# Altium footprint library gost_lib_footpr.PcbLib: 34 footprints (part 3 of 3)
Each footprint in its own frame and in the unit in brackets; x right, y up, seen from the top. Pads: shape width x height; smd on the part's side, far side on the other; paste and mask are expansions set on the pad; w line width, h text height; cw(c..) or ccw(c..) is an arc to the next point about the centre after c.
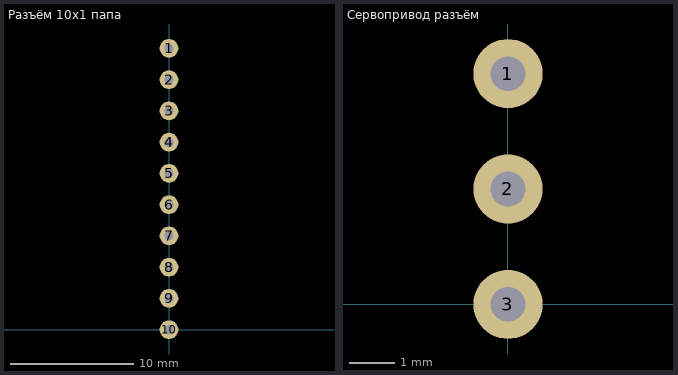
[diagram p2: the footprints below, top view; thin cyan lines are the x and y axes]

## Разъём 10х1 папа [mil]
pads (10):
  round 60 hole 30: 1(0,900) 2(0,800) 3(0,700) 4(0,600) 5(0,500) 6(0,400) 7(0,300) 8(0,200) 9(0,100) 10(0,0)

## Сервопривод разъём [mil]
pads (3):
  round 60 hole 30: 1(0,200) 2(0,100) 3(0,0)
3D body "1x3 Male Pin Header.STEP": height 414.96, standoff -118.11, extent -49.21,-50 49.21,250.2